# EAGLE library part BQ25504 (library X893)
http://www.ti.com/lit/ds/symlink/bq25504.pdf
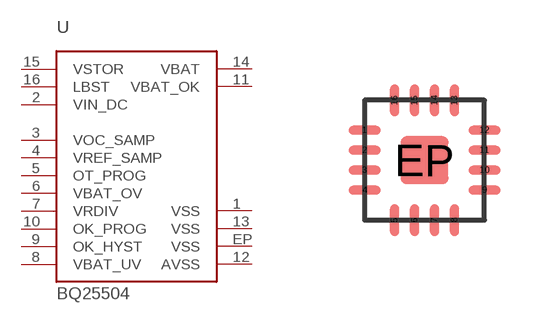
[diagram p205: symbol with the pads of QFN16-3X3; footprint QFN16-3X3]

Designator prefix U

## BQ25504  [QFN16-3X3]
1  VSS
2  VIN_DC
3  VOC_SAMP
4  VREF_SAMP
5  OT_PROG
6  VBAT_OV
7  VRDIV
8  VBAT_UV
9  OK_HYST
10  OK_PROG
11  VBAT_OK
12  AVSS
13  VSS
14  VBAT
15  VSTOR
16  LBST
EP  VSS

## Footprint QFN16-3X3 (pad centres in mm)
smd 0.8 x 0.23: 1 -1.5,0.75; 2 -1.5,0.25; 3 -1.5,-0.25; 4 -1.5,-0.75; 9 1.5,-0.75; 10 1.5,-0.25; 11 1.5,0.25; 12 1.5,0.75
smd 0.23 x 0.8: 5 -0.75,-1.5; 6 -0.25,-1.5; 7 0.25,-1.5; 8 0.75,-1.5; 13 0.75,1.5; 14 0.25,1.5; 15 -0.25,1.5; 16 -0.75,1.5
smd 1.2 x 1.2: EP 0,0